# EAGLE library part WS2801 (library icmi-ics)
WS2801 - 3-Channel Constant Current LED Driver With Programmable PWM Outputs
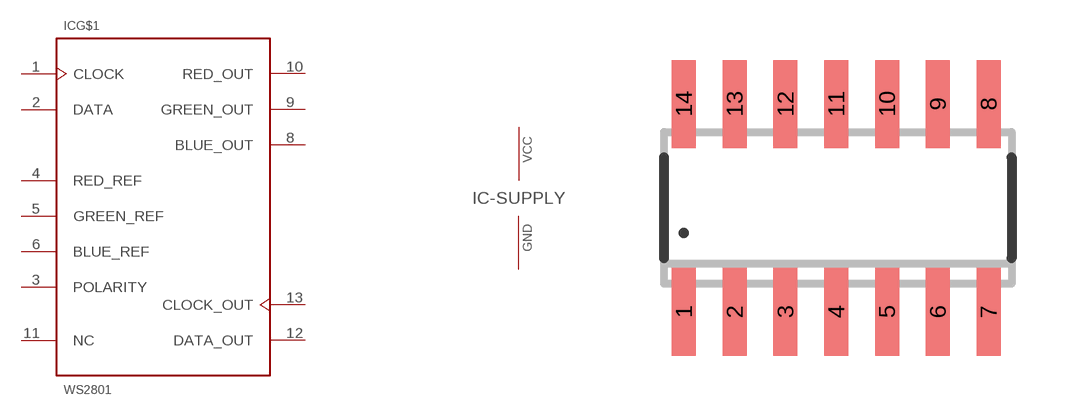
[diagram p4: symbol with the pads of SO-14; footprint SO-14]

Designator prefix IC; gates G$1=WS2801 -SUPPLY=1PWR_1GND

## WS2801-SO14  [SO-14]
1  G$1:CLOCK  in
2  G$1:DATA  in
3  G$1:POLARITY
4  G$1:RED_REF
5  G$1:GREEN_REF
6  G$1:BLUE_REF
7  -SUPPLY:GND  pwr
8  G$1:BLUE_OUT
9  G$1:GREEN_OUT
10  G$1:RED_OUT
11  G$1:NC  nc
12  G$1:DATA_OUT
13  G$1:CLOCK_OUT  out
14  -SUPPLY:VCC  pwr

## Footprint SO-14 (pad centres in mm)
SMALL OUTLINE INTEGRATED CIRCUIT 14 PIN IC size 3.9mm x 8.6mm
smd 0.6 x 2.2: 1 -3.81,-2.6; 2 -2.54,-2.6; 3 -1.27,-2.6; 4 0,-2.6; 5 1.27,-2.6; 6 2.54,-2.6; 7 3.81,-2.6; 8 3.81,2.6; 9 2.54,2.6; 10 1.27,2.6; 11 0,2.6; 12 -1.27,2.6; 13 -2.54,2.6; 14 -3.81,2.6